# Altium footprint library Radial_8.3x8.3mm_SMD.PcbLib: 3 footprints
Each footprint in its own frame and in the unit in brackets; x right, y up, seen from the top. Pads: shape width x height; smd on the part's side, far side on the other; paste and mask are expansions set on the pad; w line width, h text height; cw(c..) or ccw(c..) is an arc to the next point about the centre after c.
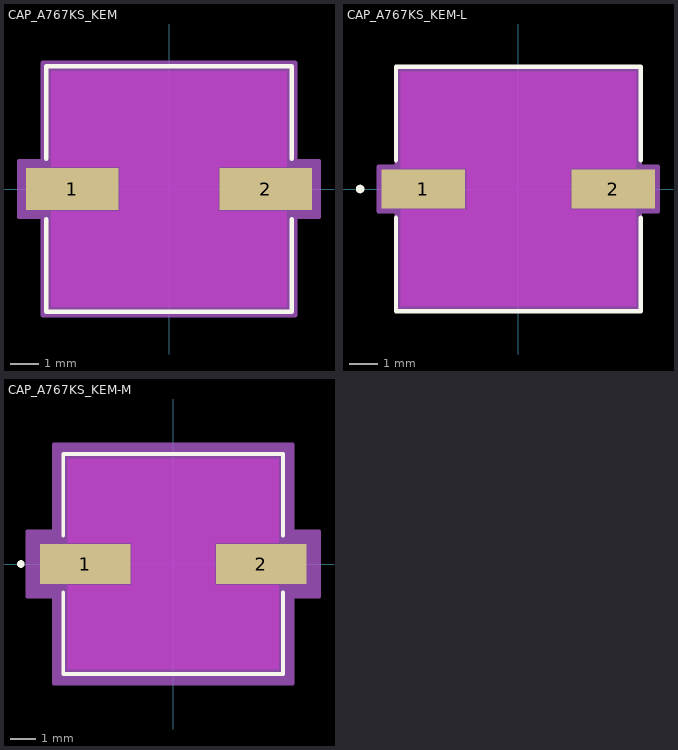
[diagram p0: the footprints below, top view; thin cyan lines are the x and y axes]

## CAP_A767KS_KEM [mil]
pads (2):
  rect 130x59 smd paste+0 mask+0: 1(-136,0) 2(136,0)
Top Layer keep-out:
  region: -69,-31.5 -69,31.5 69,31.5 69,-31.5
  region: -165.5,31.5 -165.5,165.5 165.5,165.5 165.5,31.5
  region: -165.5,-165.5 -165.5,-31.5 165.5,-31.5 165.5,-165.5
Top Overlay:
  lines w6: -172.5,-42.6 -172.5,-172.5 172.5,-172.5 172.5,-42.6 ; -172.5,42.6 -172.5,172.5 172.5,172.5 172.5,42.6
Keep-Out Layer:
  region: -69,-31.5 -69,31.5 69,31.5 69,-31.5
Mechanical 13:
  circle w0: c-147.5,0 r0
  lines w1: -167.5,-83.75 -83.75,-167.5 ; -167.5,83.75 -83.75,167.5 ; -167.5,-167.5 167.5,-167.5 167.5,167.5 -167.5,167.5 -167.5,-167.5
Mechanical 15:
  region: -177.5,-39.5 -211,-39.5 -211,39.5 -177.5,39.5 -177.5,177.5 177.5,177.5 177.5,39.5 211,39.5 211,-39.5 177.5,-39.5 177.5,-177.5 -177.5,-177.5
  lines w6: -211,-39.5 -211,39.5 -177.5,39.5 -177.5,177.5 177.5,177.5 177.5,39.5 211,39.5 211,-39.5 177.5,-39.5 177.5,-177.5 -177.5,-177.5 -177.5,-39.5 -211,-39.5
3D body "CAP_A767KS_KEM.step": height 494.09, standoff 0, extent -180.98,-167.48 180.98,167.48

## CAP_A767KS_KEM-L [mil]
pads (2):
  rect 118x55 smd paste+0 mask+0: 1(-134,0) 2(134,0)
Top Layer keep-out:
  region: -73,-29.5 -73,29.5 73,29.5 73,-29.5
  region: -165.5,29.5 -165.5,165.5 165.5,165.5 165.5,29.5
  region: -165.5,-165.5 -165.5,-29.5 165.5,-29.5 165.5,-165.5
Top Overlay:
  circle w6: c-223,0 r3
  lines w6: -172.5,-40.6 -172.5,-172.5 172.5,-172.5 172.5,-40.6 ; -172.5,40.6 -172.5,172.5 172.5,172.5 172.5,40.6
Keep-Out Layer:
  region: -73,-29.5 -73,29.5 73,29.5 73,-29.5
Mechanical 13:
  circle w0: c-147.5,0 r3
  lines w1: -167.5,-83.75 -83.75,-167.5 ; -167.5,83.75 -83.75,167.5 ; -167.5,-167.5 167.5,-167.5 167.5,167.5 -167.5,167.5 -167.5,-167.5
Mechanical 15:
  region: -171.5,-31.5 -197,-31.5 -197,31.5 -171.5,31.5 -171.5,171.5 171.5,171.5 171.5,31.5 197,31.5 197,-31.5 171.5,-31.5 171.5,-171.5 -171.5,-171.5
  lines w6: -197,-31.5 -197,31.5 -171.5,31.5 -171.5,171.5 171.5,171.5 171.5,31.5 197,31.5 197,-31.5 171.5,-31.5 171.5,-171.5 -171.5,-171.5 -171.5,-31.5 -197,-31.5
3D body "CAP_A767KS_KEM.step": height 494.09, standoff 0, extent -180.98,-167.48 180.98,167.48

## CAP_A767KS_KEM-M [mil]
pads (2):
  rect 142x63 smd paste+0 mask+0: 1(-138,0) 2(138,0)
Top Layer keep-out:
  region: -65,-33.5 -65,33.5 65,33.5 65,-33.5
  region: -165.5,33.5 -165.5,165.5 165.5,165.5 165.5,33.5
  region: -165.5,-165.5 -165.5,-33.5 165.5,-33.5 165.5,-165.5
Top Overlay:
  circle w6: c-239,0 r3
  lines w6: -172.5,-44.6 -172.5,-172.5 172.5,-172.5 172.5,-44.6 ; -172.5,44.6 -172.5,172.5 172.5,172.5 172.5,44.6
Keep-Out Layer:
  region: -65,-33.5 -65,33.5 65,33.5 65,-33.5
Mechanical 13:
  circle w0: c-147.5,0 r3
  lines w1: -167.5,-83.75 -83.75,-167.5 ; -167.5,83.75 -83.75,167.5 ; -167.5,-167.5 167.5,-167.5 167.5,167.5 -167.5,167.5 -167.5,-167.5
Mechanical 15:
  region: -187.5,-51.5 -229,-51.5 -229,51.5 -187.5,51.5 -187.5,187.5 187.5,187.5 187.5,51.5 229,51.5 229,-51.5 187.5,-51.5 187.5,-187.5 -187.5,-187.5
  lines w6: -229,-51.5 -229,51.5 -187.5,51.5 -187.5,187.5 187.5,187.5 187.5,51.5 229,51.5 229,-51.5 187.5,-51.5 187.5,-187.5 -187.5,-187.5 -187.5,-51.5 -229,-51.5
3D body "CAP_A767KS_KEM.step": height 494.09, standoff 0, extent -180.98,-167.48 180.98,167.48